# Altium schematic symbol library BAT54JFILM.SchLib: 3 symbols
Pins are listed as number, name and electrical type; pins without a type are passive.

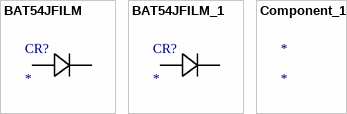
[diagram p0: symbols BAT54JFILM to Component_1]

## BAT54JFILM
designator CR?
No Description Available; Mfr_Name: STMicroelectronics
footprint CR_SOD323_BAT54_STM
pins: 1, 2

## BAT54JFILM_1
designator CR?
No Description Available; Mfr_Name: STMicroelectronics
footprint CR_SOD323_BAT54_STM
pins: 1, 2

## Component_1
designator *